# EAGLE library part RELAY_DOUBLE (library Custom Block Diagram Parts)
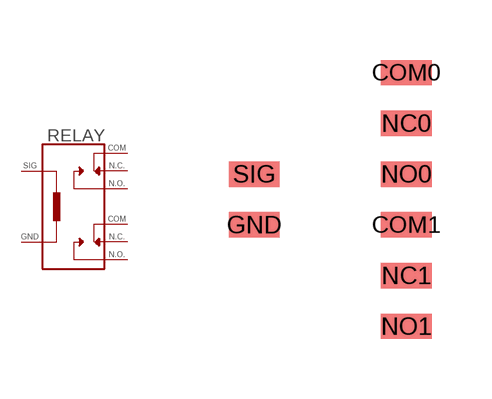
[diagram p1: symbol with the pads of RELAY_DOUBLE; footprint RELAY_DOUBLE]

Designator prefix -

## RELAY_DOUBLE  [RELAY_DOUBLE]
COM0  COM0
COM1  COM1
GND  GND
NC0  NC0
NC1  NC1
NO0  NO0
NO1  NO1
SIG  SIG

## Footprint RELAY_DOUBLE (pad centres in mm)
smd 1.27 x 0.635: COM0 1.27,5.08; COM1 1.27,1.27; GND -2.54,1.27; NC0 1.27,3.81; NC1 1.27,0; NO0 1.27,2.54; NO1 1.27,-1.27; SIG -2.54,2.54